# EAGLE library part GS82032A (library IC)
GSI Technology 64x32, 2Mb Synchronous Burst SRAM
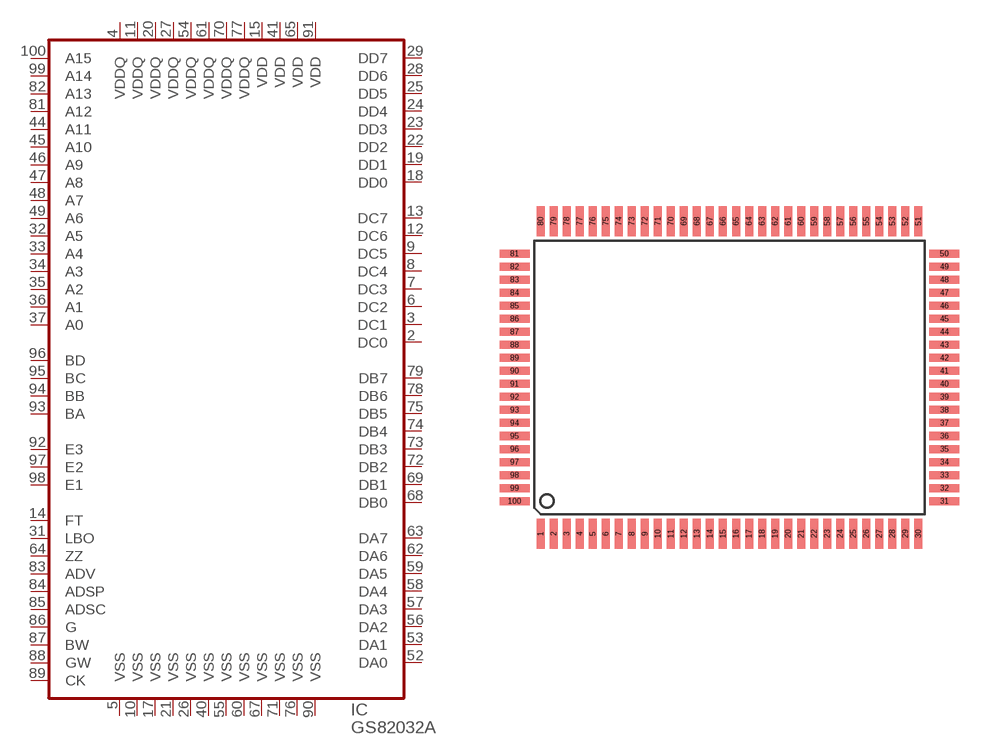
[diagram p142: symbol with the pads of TQFP100R; footprint TQFP100R]

Designator prefix IC

## GS82032A  [TQFP100R]
2  DC0
3  DC1
4  VDDQ
5  VSS
6  DC2
7  DC3
8  DC4
9  DC5
10  VSS
11  VDDQ
12  DC6
13  DC7
14  FT
15  VDD
17  VSS
18  DD0
19  DD1
20  VDDQ
21  VSS
22  DD2
23  DD3
24  DD4
25  DD5
26  VSS
27  VDDQ
28  DD6
29  DD7
31  LBO
32  A5
33  A4
34  A3
35  A2
36  A1
37  A0
40  VSS
41  VDD
44  A11
45  A10
46  A9
47  A8
48  A7
49  A6
52  DA0
53  DA1
54  VDDQ
55  VSS
56  DA2
57  DA3
58  DA4
59  DA5
60  VSS
61  VDDQ
62  DA6
63  DA7
64  ZZ
65  VDD
67  VSS
68  DB0
69  DB1
70  VDDQ
71  VSS
72  DB2
73  DB3
74  DB4
75  DB5
76  VSS
77  VDDQ
78  DB6
79  DB7
81  A12
82  A13
83  ADV
84  ADSP
85  ADSC
86  G
87  BW
88  GW
89  CK
90  VSS
91  VDD
92  E3
93  BA
94  BB
95  BC
96  BD
97  E2
98  E1
99  A14
100  A15

## Footprint TQFP100R (pad centres in mm)
TQFP100, 0.65mm pitch, 30x20 rectangular
smd 0.4 x 1.5: 1 -9.425,-7.8; 2 -8.775,-7.8; 3 -8.125,-7.8; 4 -7.475,-7.8; 5 -6.825,-7.8; 6 -6.175,-7.8; 7 -5.525,-7.8; 8 -4.875,-7.8; 9 -4.225,-7.8; 10 -3.575,-7.8; 11 -2.925,-7.8; 12 -2.275,-7.8; 13 -1.625,-7.8; 14 -0.975,-7.8; 15 -0.325,-7.8; 16 0.325,-7.8; 17 0.975,-7.8; 18 1.625,-7.8; 19 2.275,-7.8; 20 2.925,-7.8; 21 3.575,-7.8; 22 4.225,-7.8; 23 4.875,-7.8; 24 5.525,-7.8; 25 6.175,-7.8; 26 6.825,-7.8; 27 7.475,-7.8; 28 8.125,-7.8; 29 8.775,-7.8; 30 9.425,-7.8; 51 9.425,7.8; 52 8.775,7.8; 53 8.125,7.8; 54 7.475,7.8; 55 6.825,7.8; 56 6.175,7.8; 57 5.525,7.8; 58 4.875,7.8; 59 4.225,7.8; 60 3.575,7.8; 61 2.925,7.8; 62 2.275,7.8; 63 1.625,7.8; 64 0.975,7.8; 65 0.325,7.8; 66 -0.325,7.8; 67 -0.975,7.8; 68 -1.625,7.8; 69 -2.275,7.8; 70 -2.925,7.8; 71 -3.575,7.8; 72 -4.225,7.8; 73 -4.875,7.8; 74 -5.525,7.8; 75 -6.175,7.8; 76 -6.825,7.8; 77 -7.475,7.8; 78 -8.125,7.8; 79 -8.775,7.8; 80 -9.425,7.8
smd 1.5 x 0.4: 31 10.725,-6.175; 32 10.725,-5.525; 33 10.725,-4.875; 34 10.725,-4.225; 35 10.725,-3.575; 36 10.725,-2.925; 37 10.725,-2.275; 38 10.725,-1.625; 39 10.725,-0.975; 40 10.725,-0.325; 41 10.725,0.325; 42 10.725,0.975; 43 10.725,1.625; 44 10.725,2.275; 45 10.725,2.925; 46 10.725,3.575; 47 10.725,4.225; 48 10.725,4.875; 49 10.725,5.525; 50 10.725,6.175; 81 -10.725,6.175; 82 -10.725,5.525; 83 -10.725,4.875; 84 -10.725,4.225; 85 -10.725,3.575; 86 -10.725,2.925; 87 -10.725,2.275; 88 -10.725,1.625; 89 -10.725,0.975; 90 -10.725,0.325; 91 -10.725,-0.325; 92 -10.725,-0.975; 93 -10.725,-1.625; 94 -10.725,-2.275; 95 -10.725,-2.925; 96 -10.725,-3.575; 97 -10.725,-4.225; 98 -10.725,-4.875; 99 -10.725,-5.525; 100 -10.725,-6.175